# Altium footprint library bq25185.PCBLIB: 3 footprints
Each footprint in its own frame and in the unit in brackets; x right, y up, seen from the top. Pads: shape width x height; smd on the part's side, far side on the other; paste and mask are expansions set on the pad; w line width, h text height; cw(c..) or ccw(c..) is an arc to the next point about the centre after c.
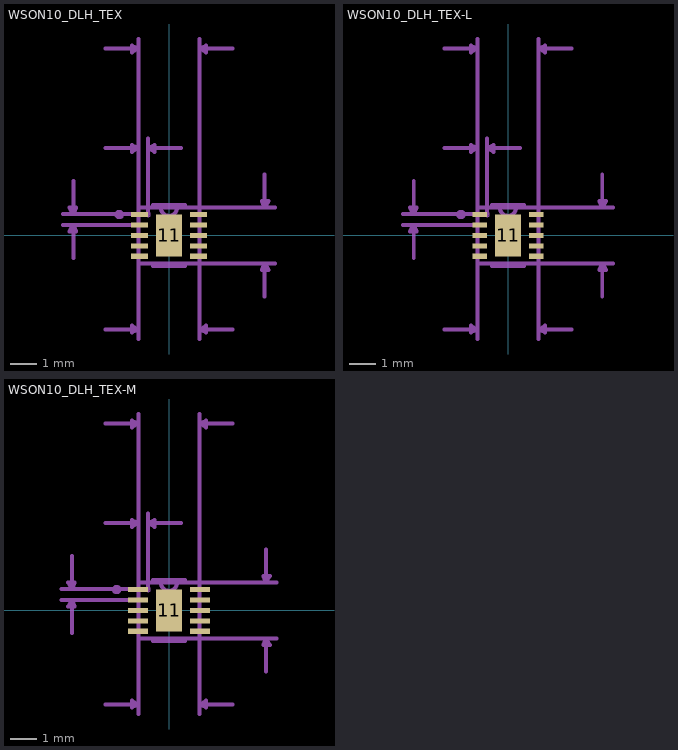
[diagram p0: the footprints below, top view; thin cyan lines are the x and y axes]

## WSON10_DLH_TEX [mil]
pads (11):
  rect 26x8 smd: 1(-44.5,31.5) 2(-44.5,15.75) 3(-44.5,0) 4(-44.5,-15.75) 5(-44.5,-31.5) 6(44.5,-31.5) 7(44.5,-15.75) 8(44.5,0) 9(44.5,15.75) 10(44.5,31.5)
  rect 39x63 smd: 11(0,0)
tDocu:
  lines w0: -34,31 ccw(c-31,31.5) -28,32 ccw(c-31,31.5) -34,31
  lines w6: -12,41 ccw(c0,41.5) 12,42 ; 12,42 46,42 46,-42 -46,-42 -46,42 12,42
tPlace:
  lines w6: -24,-46 24,-46 ; -24,46 24,46 ; -79,31 ccw(c-75,31.5) -71,32 ccw(c-75,31.5) -79,31
Document:
  lines w6: -160,16 -144,16 ; -160,32 -144,32 ; -144,-34 -144,16 ; -144,82 -144,32 ; -96,-142 -46,-142 ; -96,132 -46,132 ; -96,282 -46,282 ; -46,-156 -46,-142 ; -46,-42 -46,-142 ; -46,32 -46,132 ; -46,296 -46,282 ; -44,16 -144,16 ; -44,32 -144,32 ; -32,32 -32,132 ; -32,146 -32,132 ; 18,132 -32,132 ; 46,-156 46,-142 ; 46,32 46,42 ; 46,296 46,282 ; 96,-142 46,-142 ; 96,282 46,282 ; 144,-92 144,-42 ; 144,92 144,42 ; 160,-42 144,-42 ; 160,42 144,42 ; -144,16 -150,6 -140,6 -144,16 ; -144,32 -150,42 -140,42 -144,32 ; -46,-142 -56,-136 -56,-146 -46,-142 ; -46,132 -46,282 ; -46,132 -56,136 -56,126 -46,132 ; -46,282 -56,286 -56,276 -46,282 ; -32,132 -22,136 -22,126 -32,132 ; 46,-142 46,-42 144,-42 ; 46,-142 56,-136 56,-146 46,-142 ; 46,42 46,282 ; 46,42 144,42 ; 46,282 56,286 56,276 46,282 ; 144,-42 140,-52 150,-52 144,-42 ; 144,42 140,52 150,52 144,42
  text "Default Padstyle: RX26Y8D0T" at -576,-412 h77.5
  text "Heat Tab Padstyle: RX39Y63D0T" at -636,-472 h77.5
  text "Alt 1 Padstyle: OX60Y90D30P" at -583,-592 h77.5
  text "Alt 2 Padstyle: OX90Y60D30P" at -583,-652 h77.5
  text "0.091in/2.311mm" at -159,302 h38.75
  text "0.014in/0.356mm" at -198,152 h38.75
  text "0.016in/0.4mm" at -437,11 h38.75
  text "0.083in/2.108mm" at 164,-12 h38.75
  text "0.091in/2.311mm" at -159,-186 h38.75

## WSON10_DLH_TEX-L [mil]
pads (11):
  rect 22x8 smd: 1(-42.5,31.5) 2(-42.5,15.75) 3(-42.5,0) 4(-42.5,-15.75) 5(-42.5,-31.5) 6(42.5,-31.5) 7(42.5,-15.75) 8(42.5,0) 9(42.5,15.75) 10(42.5,31.5)
  rect 39x63 smd: 11(0,0)
tDocu:
  lines w0: -34,31 ccw(c-31,31.5) -28,32 ccw(c-31,31.5) -34,31
  lines w6: -12,41 ccw(c0,41.5) 12,42 ; 12,42 46,42 46,-42 -46,-42 -46,42 12,42
tPlace:
  lines w6: -24,-46 24,-46 ; -24,46 24,46 ; -75,31 ccw(c-71,31.5) -67,32 ccw(c-71,31.5) -75,31
Document:
  lines w6: -158,16 -142,16 ; -158,32 -142,32 ; -142,-34 -142,16 ; -142,82 -142,32 ; -96,-142 -46,-142 ; -96,132 -46,132 ; -96,282 -46,282 ; -46,-156 -46,-142 ; -46,-42 -46,-142 ; -46,32 -46,132 ; -46,296 -46,282 ; -42,16 -142,16 ; -42,32 -142,32 ; -32,32 -32,132 ; -32,146 -32,132 ; 18,132 -32,132 ; 46,-156 46,-142 ; 46,32 46,42 ; 46,296 46,282 ; 96,-142 46,-142 ; 96,282 46,282 ; 142,-92 142,-42 ; 142,92 142,42 ; 158,-42 142,-42 ; 158,42 142,42 ; -142,16 -148,6 -138,6 -142,16 ; -142,32 -148,42 -138,42 -142,32 ; -46,-142 -56,-136 -56,-146 -46,-142 ; -46,132 -46,282 ; -46,132 -56,136 -56,126 -46,132 ; -46,282 -56,286 -56,276 -46,282 ; -32,132 -22,136 -22,126 -32,132 ; 46,-142 46,-42 142,-42 ; 46,-142 56,-136 56,-146 46,-142 ; 46,42 46,282 ; 46,42 142,42 ; 46,282 56,286 56,276 46,282 ; 142,-42 138,-52 148,-52 142,-42 ; 142,42 138,52 148,52 142,42
  text "Default Padstyle: RX22Y8D0T" at -576,-412 h77.5
  text "Heat Tab Padstyle: RX39Y63D0T" at -636,-472 h77.5
  text "Alt 1 Padstyle: OX60Y90D30P" at -583,-592 h77.5
  text "Alt 2 Padstyle: OX90Y60D30P" at -583,-652 h77.5
  text "0.091in/2.311mm" at -159,302 h38.75
  text "0.014in/0.356mm" at -198,152 h38.75
  text "0.016in/0.4mm" at -435,11 h38.75
  text "0.083in/2.108mm" at 162,-12 h38.75
  text "0.091in/2.311mm" at -159,-186 h38.75

## WSON10_DLH_TEX-M [mil]
pads (11):
  rect 30x8 smd: 1(-46.5,31.5) 2(-46.5,15.75) 3(-46.5,0) 4(-46.5,-15.75) 5(-46.5,-31.5) 6(46.5,-31.5) 7(46.5,-15.75) 8(46.5,0) 9(46.5,15.75) 10(46.5,31.5)
  rect 39x63 smd: 11(0,0)
tDocu:
  lines w0: -34,31 ccw(c-31,31.5) -28,32 ccw(c-31,31.5) -34,31
  lines w6: -12,41 ccw(c0,41.5) 12,42 ; 12,42 46,42 46,-42 -46,-42 -46,42 12,42
tPlace:
  lines w6: -24,-46 24,-46 ; -24,46 24,46 ; -83,31 ccw(c-79,31.5) -75,32 ccw(c-79,31.5) -83,31
Document:
  lines w6: -162,16 -146,16 ; -162,32 -146,32 ; -146,-34 -146,16 ; -146,82 -146,32 ; -96,-142 -46,-142 ; -96,132 -46,132 ; -96,282 -46,282 ; -46,-156 -46,-142 ; -46,-42 -46,-142 ; -46,16 -146,16 ; -46,296 -46,282 ; -32,32 -32,132 ; -32,146 -32,132 ; 18,132 -32,132 ; 46,-156 46,-142 ; 46,32 46,42 ; 46,296 46,282 ; 96,-142 46,-142 ; 96,282 46,282 ; 146,-92 146,-42 ; 146,92 146,42 ; 162,-42 146,-42 ; 162,42 146,42 ; -146,16 -152,6 -142,6 -146,16 ; -146,32 -46,32 -46,132 ; -146,32 -152,42 -142,42 -146,32 ; -46,-142 -56,-136 -56,-146 -46,-142 ; -46,132 -46,282 ; -46,132 -56,136 -56,126 -46,132 ; -46,282 -56,286 -56,276 -46,282 ; -32,132 -22,136 -22,126 -32,132 ; 46,-142 46,-42 146,-42 ; 46,-142 56,-136 56,-146 46,-142 ; 46,42 46,282 ; 46,42 146,42 ; 46,282 56,286 56,276 46,282 ; 146,-42 142,-52 152,-52 146,-42 ; 146,42 142,52 152,52 146,42
  text "Default Padstyle: RX30Y8D0T" at -576,-412 h77.5
  text "Heat Tab Padstyle: RX39Y63D0T" at -636,-472 h77.5
  text "Alt 1 Padstyle: OX60Y90D30P" at -583,-592 h77.5
  text "Alt 2 Padstyle: OX90Y60D30P" at -583,-652 h77.5
  text "0.091in/2.311mm" at -159,302 h38.75
  text "0.014in/0.356mm" at -198,152 h38.75
  text "0.016in/0.4mm" at -439,11 h38.75
  text "0.083in/2.108mm" at 166,-12 h38.75
  text "0.091in/2.311mm" at -159,-186 h38.75